# EAGLE library part UB232R (library custom_parts)
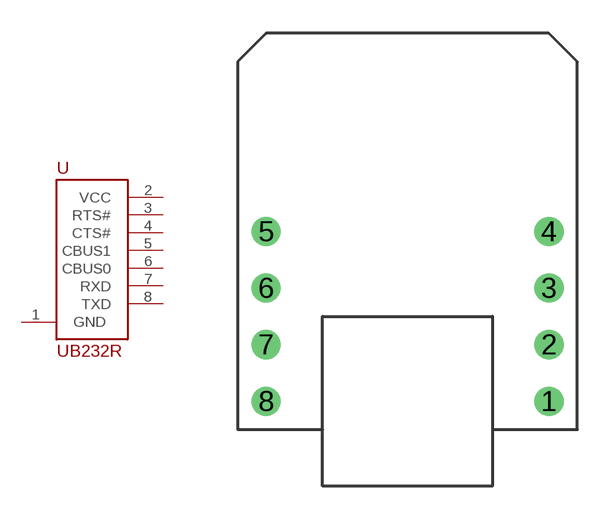
[diagram p5: symbol with the pads of UB232R; footprint UB232R]

Designator prefix -

## UB232R  [UB232R]
1  GND
2  VCC
3  RTS#
4  CTS#
5  CBUS1
6  CBUS0
7  RXD
8  TXD

## Footprint UB232R (pad centres in mm)
drill 0.8: 1 6.35,-5.08; 2 6.35,-2.54; 3 6.35,0; 4 6.35,2.54; 5 -6.35,2.54; 6 -6.35,0; 7 -6.35,-2.54; 8 -6.35,-5.08